# Altium footprint library VSSAF3N50-M3_6A.PCBLIB: 1 footprints
Each footprint in its own frame and in the unit in brackets; x right, y up, seen from the top. Pads: shape width x height; smd on the part's side, far side on the other; paste and mask are expansions set on the pad; w line width, h text height; cw(c..) or ccw(c..) is an arc to the next point about the centre after c.
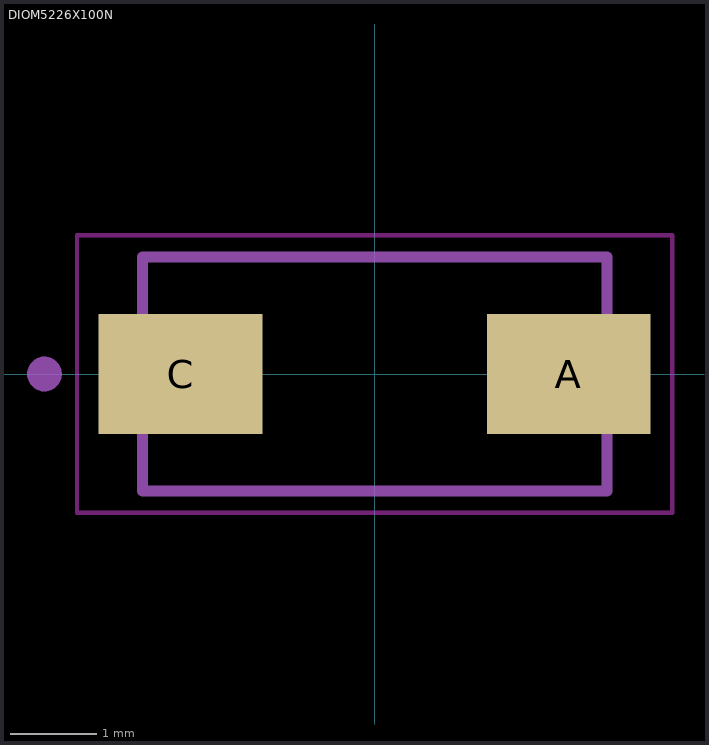
[diagram p0: the footprint, top view; thin cyan lines are the x and y axes]

## DIOM5226X100N [mm]
pads (2):
  rect 1.89x1.38 smd: A(2.24,0) C(-2.24,0)
Top keep-out:
  lines w0.05: -3.435,-1.6 -3.435,1.6 3.435,1.6 3.435,-1.6 -3.435,-1.6
tDocu:
  circle w0.2: c-3.81,0 r0.1
  lines w0.127: -2.68,-1.35 -2.68,1.35 2.68,1.35 2.68,-1.35 -2.68,-1.35
tPlace:
  circle w0.2: c-3.81,0 r0.1
  lines w0.127: -2.68,-1.05 -2.68,-1.35 2.68,-1.35 2.68,-1.05 ; -2.68,1.05 -2.68,1.35 2.68,1.35 2.68,1.05